# Altium schematic symbol library ISO ADUM7441CRQZ.Schlib: 1 symbol
Pins are listed as number, name and electrical type; pins without a type are passive.

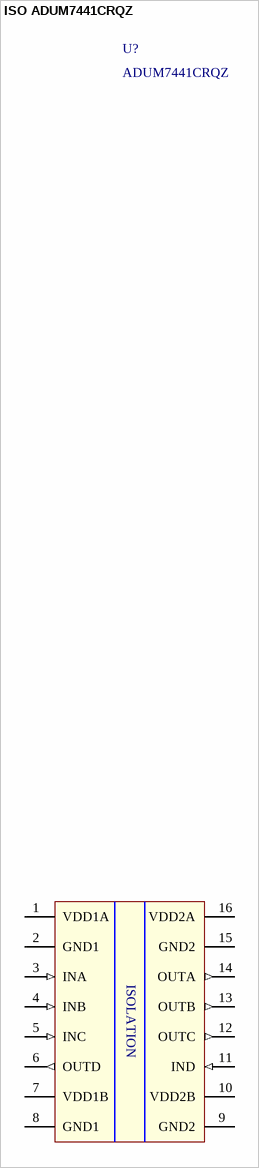
[diagram p0: symbol ISO ADUM7441CRQZ]

## ISO ADUM7441CRQZ
designator U?, comment ADUM7441CRQZ
General Purpose Digital Isolator 1000Vrms 4 Channel 25Mbps 15kV/µs CMTI 16-SSOP (0.154", 3.90mm Width)
footprint SOP64P600X175-16N (SOP, 16-Leads, Body 4.90x3.91mm, Pitch 0.64mm, IPC Medium Density)
pins: 1 VDD1A (power), 2 GND1 (power), 3 INA (in), 4 INB (in), 5 INC (in), 6 OUTD (out), 7 VDD1B, 8 GND1 (power), 9 GND2 (power), 10 VDD2B, 11 IND (in), 12 OUTC (out), 13 OUTB (out), 14 OUTA (out), 15 GND2 (power), 16 VDD2A (power)
text: ISOLATION